# EAGLE library part ESP8266 (library esp8266)
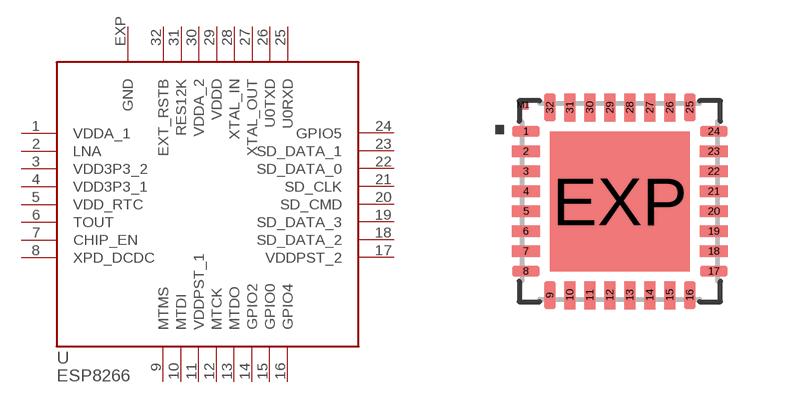
[diagram p0: symbol with the pads of HVQFN32; footprint HVQFN32]

Designator prefix -

## ESP8266  [HVQFN32]
1  VDDA_1
2  LNA
3  VDD3P3_2
4  VDD3P3_1
5  VDD_RTC
6  TOUT
7  CHIP_EN
8  XPD_DCDC
9  MTMS
10  MTDI
11  VDDPST_1
12  MTCK
13  MTDO
14  GPIO2
15  GPIO0
16  GPIO4
17  VDDPST_2
18  SD_DATA_2
19  SD_DATA_3
20  SD_CMD
21  SD_CLK
22  SD_DATA_0
23  SD_DATA_1
24  GPIO5
25  U0RXD
26  U0TXD
27  XTAL_OUT
28  XTAL_IN
29  VDDD
30  VDDA_2
31  RES12K
32  EXT_RSTB
EXP  GND

## Footprint HVQFN32 (pad centres in mm)
HVQFN32 (SOT617-3) 5 x 5 x .85 mm, Pitch 0.5mm Source: http://www.semiconductors.philips.com/acrobat_download/datasheets/TDA9885_TDA9886_2.pdf
smd 0.7 x 0.28: 1 -2.35,1.75; 2 -2.35,1.25; 3 -2.35,0.75; 4 -2.35,0.25; 5 -2.35,-0.25; 6 -2.35,-0.75; 7 -2.35,-1.25; 8 -2.35,-1.75; 17 2.35,-1.75; 18 2.35,-1.25; 19 2.35,-0.75; 20 2.35,-0.25; 21 2.35,0.25; 22 2.35,0.75; 23 2.35,1.25; 24 2.35,1.75
smd 0.28 x 0.7: 9 -1.75,-2.35; 10 -1.25,-2.35; 11 -0.75,-2.35; 12 -0.25,-2.35; 13 0.25,-2.35; 14 0.75,-2.35; 15 1.25,-2.35; 16 1.75,-2.35; 25 1.75,2.35; 26 1.25,2.35; 27 0.75,2.35; 28 0.25,2.35; 29 -0.25,2.35; 30 -0.75,2.35; 31 -1.25,2.35; 32 -1.75,2.35
smd 3.5 x 3.5: EXP 0,0
smd 0.25 x 0.25: M1 -2.415,2.415